# Altium footprint library Analog.PcbLib: 8 footprints
Each footprint in its own frame and in the unit in brackets; x right, y up, seen from the top. Pads: shape width x height; smd on the part's side, far side on the other; paste and mask are expansions set on the pad; w line width, h text height; cw(c..) or ccw(c..) is an arc to the next point about the centre after c.
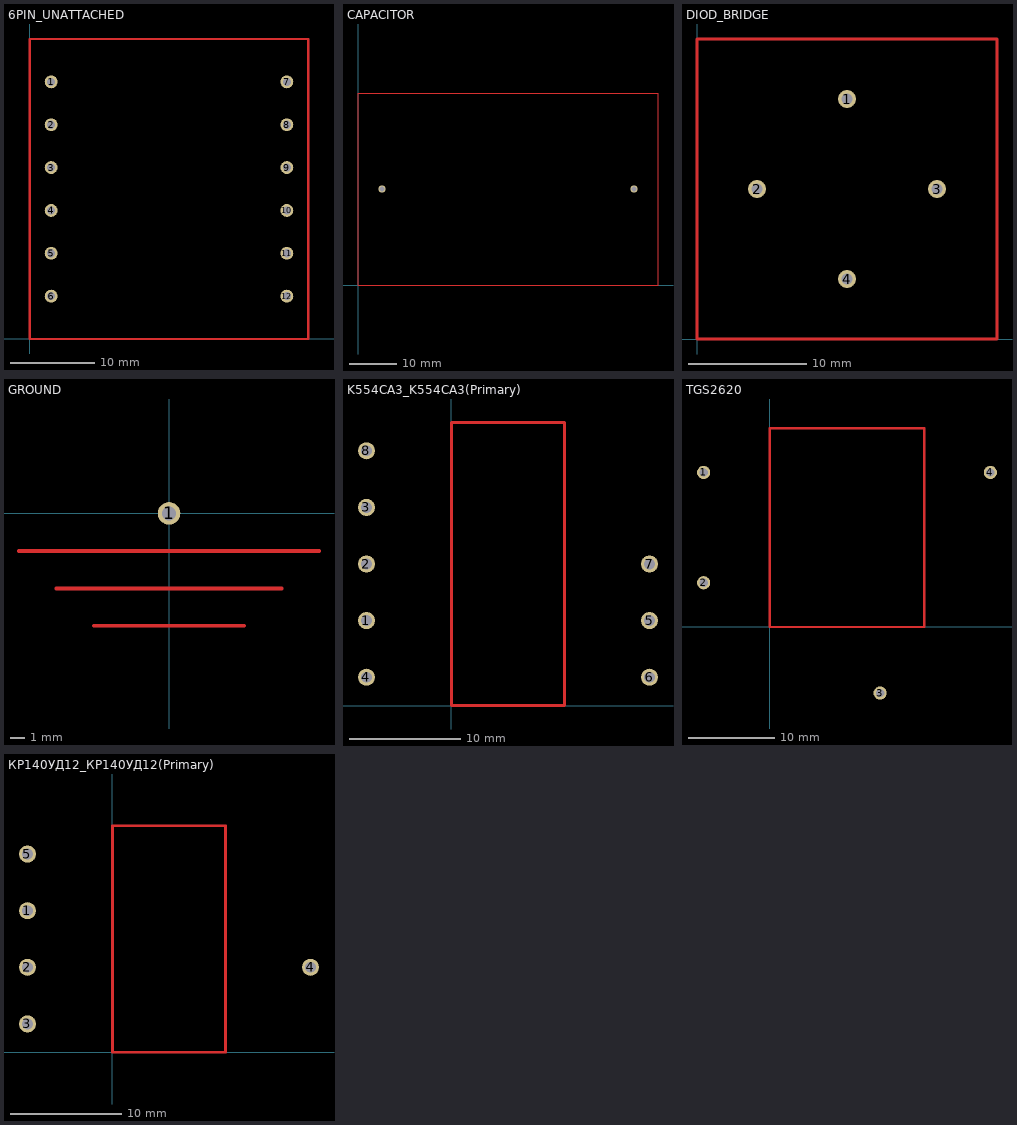
[diagram p0: the footprints below, top view; thin cyan lines are the x and y axes]

## 6PIN_UNATTACHED [mil]
pads (12):
  round 60 hole 38: 1(100,1200) 2(100,1000) 3(100,800) 4(100,600) 5(100,400) 6(100,200) 7(1200,1200) 8(1200,1000) 9(1200,800) 10(1200,600) 11(1200,400) 12(1200,200)
Top Layer:
  lines w10: 0,0 1300,0 1300,1400 0,1400 0,1300 0,0

## CAPACITOR [mil]
pads (2):
  round 60 hole 38: 1(200,800) 2(2300,800)
Top Layer:
  lines w10: 0,0 2500,0 2500,1600 0,1600 0,1500 0,300 0,100 0,0

## DIOD_BRIDGE [mil]
pads (4):
  round 60 hole 38: 1(500,800) 2(200,500) 3(800,500) 4(500,200)
Top Layer:
  lines w10: 0,0 1000,0 1000,1000 0,1000 0,0

## GROUND [mil]
pads (1):
  round 60 hole 38: 1(0,0)
Top Layer:
  lines w10: -400,-100 400,-100 ; -300,-200 300,-200 ; -200,-300 200,-300

## K554CA3_K554CA3(Primary) [mil]
pads (8):
  round 60 hole 38: 1(-300,300) 2(-300,500) 3(-300,700) 4(-300,100) 5(700,300) 6(700,100) 7(700,500) 8(-300,900)
Top Layer:
  lines w10: 0,0 300,0 400,0 400,1000 0,1000 0,0

## PCBComponent_1 [mil]

## TGS2620 [mil]
pads (4):
  round 60 hole 38: 1(-300,700) 2(-300,200) 3(500,-300) 4(1000,700)
Top Layer:
  lines w10: 0,0 700,0 700,900 0,900 0,0

## КР140УД12_КР140УД12(Primary) [mil]
pads (5):
  round 60 hole 38: 1(-300,500) 2(-300,300) 3(-300,100) 4(700,300) 5(-300,700)
Top Layer:
  lines w10: 0,0 400,0 400,800 0,800 0,0